# EAGLE library part RESISTOR-ARRAY (library bodger)
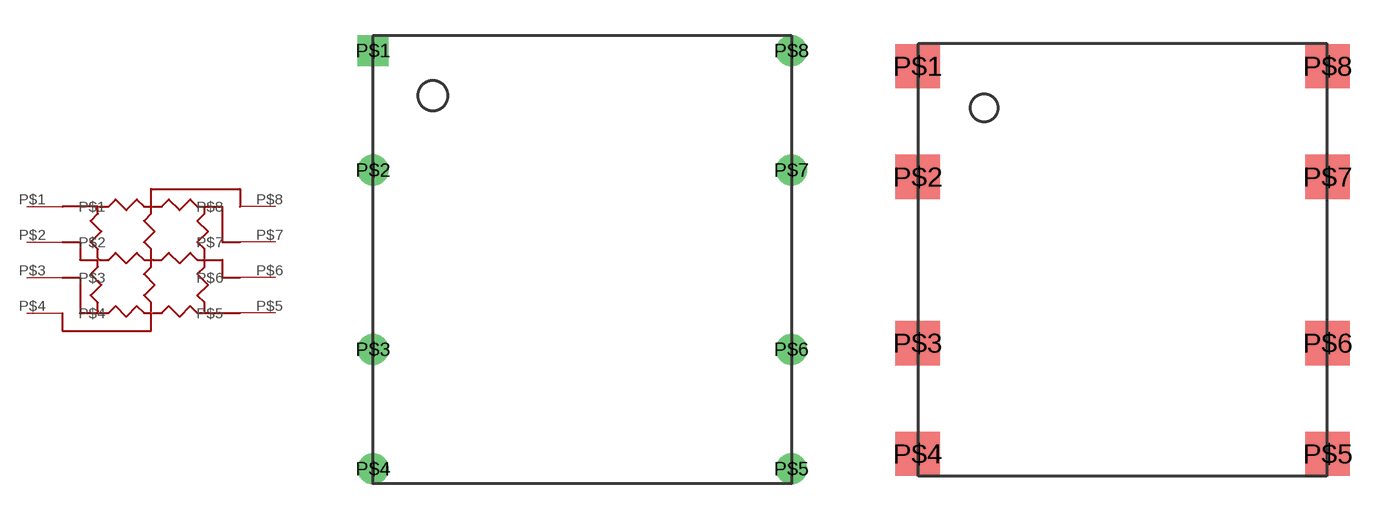
[diagram p41: symbol with the pads of RESISTOR-ARRAY; footprints RESISTOR-ARRAY, RESISTOR-ARRAY-SMD]

Designator prefix -

## RESISTOR-ARRAYPTH  [RESISTOR-ARRAY]
P$1  P$1
P$2  P$2
P$3  P$3
P$4  P$4
P$5  P$5
P$6  P$6
P$7  P$7
P$8  P$8

## RESISTOR-ARRAYSMD  [RESISTOR-ARRAY-SMD]
Pads as for RESISTOR-ARRAY

## RESISTOR-ARRAYEKEY  [EKEY-SMD]
Pads as for RESISTOR-ARRAY

## Footprint RESISTOR-ARRAY (pad centres in mm)
drill 0.8 square: P$1 -8.89,8.89
drill 0.8: P$2 -8.89,3.81; P$3 -8.89,-3.81; P$4 -8.89,-8.89; P$5 8.89,-8.89; P$6 8.89,-3.81; P$7 8.89,3.81; P$8 8.89,8.89

## Footprint RESISTOR-ARRAY-SMD (pad centres in mm)
smd 2.032 x 2.032: P$1 -9.398,8.89; P$2 -9.398,3.81; P$3 -9.398,-3.81; P$4 -9.398,-8.89; P$5 9.398,-8.89; P$6 9.398,-3.81; P$7 9.398,3.81; P$8 9.398,8.89

## Footprint EKEY-SMD (pad centres in mm)
smd 2.032 x 2.032: P$1 -9.398,8.89; P$2 -9.398,3.81; P$3 -9.398,-3.81; P$4 -9.398,-8.89; P$5 9.398,-8.89; P$6 9.398,-3.81; P$7 9.398,3.81; P$8 9.398,8.89